# EAGLE library part ADC,LTC2311 (library QuantumOptics)
LTC2311 ADC, 16-bit 5MSPS serial, wide input range.
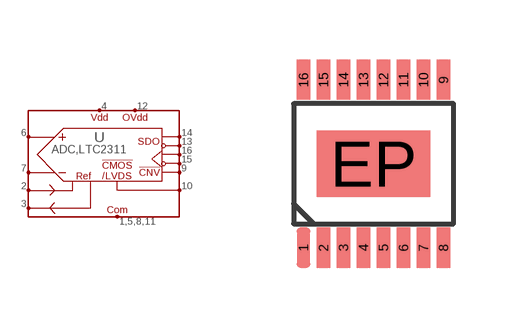
[diagram p224: symbol with the pads of MSOP16-EP; footprint MSOP16-EP]

Designator prefix U

## ADC,LTC2311-MSOP16EP  [MSOP16-EP]
1  COM
2  REFIN  in
3  REFOUT  out
4  VDD
5  COM
6  IN+  in
7  IN-  in
8  COM
9  !CNV  in
10  !CMOS!/LVDS  in
11  COM
12  OVDD
13  SDO-  out
14  SDO+  out
15  SCK-  in
16  SCK+  in

## Footprint MSOP16-EP (pad centres in mm)
MSOP16-EP from Linear Tech.
smd 0.34 x 1: 1 -1.75,-2.1; 2 -1.25,-2.1; 3 -0.75,-2.1; 4 -0.25,-2.1; 5 0.25,-2.1; 6 0.75,-2.1; 7 1.25,-2.1; 8 1.75,-2.1; 9 1.75,2.1; 10 1.25,2.1; 11 0.75,2.1; 12 0.25,2.1; 13 -0.25,2.1; 14 -0.75,2.1; 15 -1.25,2.1; 16 -1.75,2.1
smd 2.845 x 1.65: EP 0,0